# Altium footprint library 101_to_9999_Pin.PcbLib: 6 footprints
Each footprint in its own frame and in the unit in brackets; x right, y up, seen from the top. Pads: shape width x height; smd on the part's side, far side on the other; paste and mask are expansions set on the pad; w line width, h text height; cw(c..) or ccw(c..) is an arc to the next point about the centre after c.
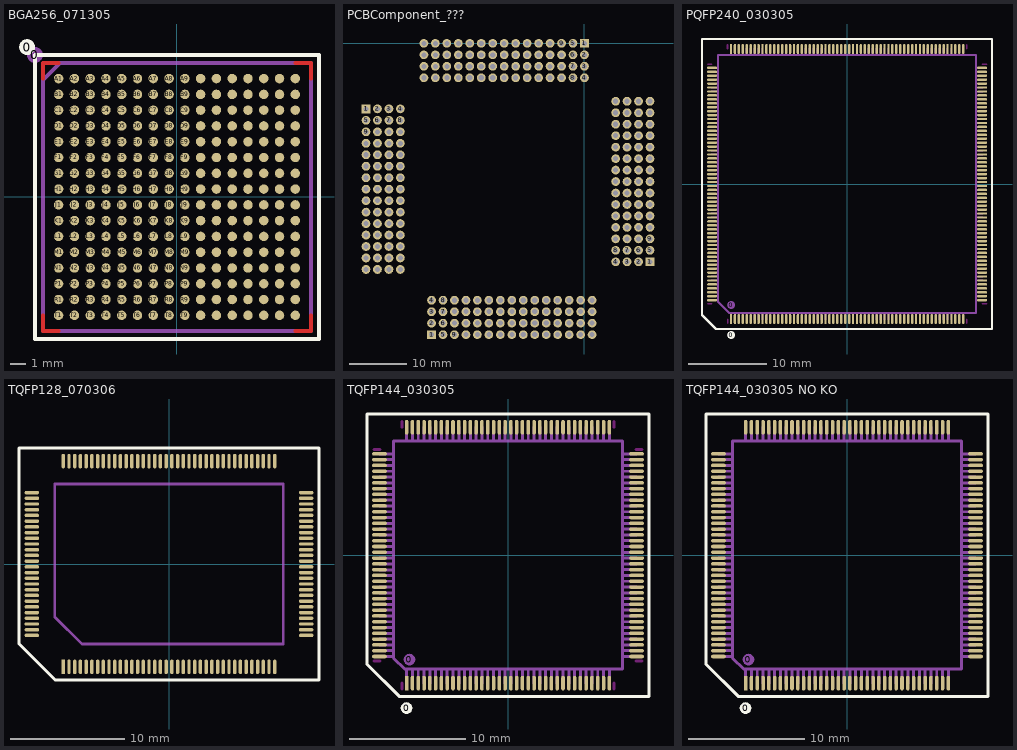
[diagram p0: the footprints below, top view; thin cyan lines are the x and y axes]

## BGA256_071305 [mm] "SMT FP"
height 3.5
pads (258):
  round 1.016 on Top Overlay mask+0.038: 0(-9.5,9.5)
  round 1.016 on Mech1 mask+0.038: 0(-9,9)
  round 0.6 smd mask+0.038: A1(-7.5,7.5) A2(-6.5,7.5) A3(-5.5,7.5) A4(-4.5,7.5) A5(-3.5,7.5) A6(-2.5,7.5) A7(-1.5,7.5) A8(-0.5,7.5) A9(0.5,7.5) A10(1.5,7.5) A11(2.5,7.5) A12(3.5,7.5) A13(4.5,7.5) A14(5.5,7.5) A15(6.5,7.5) A16(7.5,7.5) B1(-7.5,6.5) B2(-6.5,6.5) B3(-5.5,6.5) B4(-4.5,6.5) B5(-3.5,6.5) B6(-2.5,6.5) B7(-1.5,6.5) B8(-0.5,6.5) B9(0.5,6.5) B10(1.5,6.5) B11(2.5,6.5) B12(3.5,6.5) B13(4.5,6.5) B14(5.5,6.5) B15(6.5,6.5) B16(7.5,6.5) C1(-7.5,5.5) C2(-6.5,5.5) C3(-5.5,5.5) C4(-4.5,5.5) C5(-3.5,5.5) C6(-2.5,5.5) C7(-1.5,5.5) C8(-0.5,5.5) C9(0.5,5.5) C10(1.5,5.5) C11(2.5,5.5) C12(3.5,5.5) C13(4.5,5.5) C14(5.5,5.5) C15(6.5,5.5) C16(7.5,5.5) D1(-7.5,4.5) D2(-6.5,4.5) D3(-5.5,4.5) D4(-4.5,4.5) D5(-3.5,4.5) D6(-2.5,4.5) D7(-1.5,4.5) D8(-0.5,4.5) D9(0.5,4.5) D10(1.5,4.5) D11(2.5,4.5) D12(3.5,4.5) D13(4.5,4.5) D14(5.5,4.5) D15(6.5,4.5) D16(7.5,4.5) E1(-7.5,3.5) E2(-6.5,3.5) E3(-5.5,3.5) E4(-4.5,3.5) E5(-3.5,3.5) E6(-2.5,3.5) E7(-1.5,3.5) E8(-0.5,3.5) E9(0.5,3.5) E10(1.5,3.5) E11(2.5,3.5) E12(3.5,3.5) E13(4.5,3.5) E14(5.5,3.5) E15(6.5,3.5) E16(7.5,3.5) F1(-7.5,2.5) F2(-6.5,2.5) F3(-5.5,2.5) F4(-4.5,2.5) F5(-3.5,2.5) F6(-2.5,2.5) F7(-1.5,2.5) F8(-0.5,2.5) F9(0.5,2.5) F10(1.5,2.5) F11(2.5,2.5) F12(3.5,2.5) F13(4.5,2.5) F14(5.5,2.5) F15(6.5,2.5) F16(7.5,2.5) G1(-7.5,1.5) G2(-6.5,1.5) G3(-5.5,1.5) G4(-4.5,1.5) G5(-3.5,1.5) G6(-2.5,1.5) G7(-1.5,1.5) G8(-0.5,1.5) G9(0.5,1.5) G10(1.5,1.5) G11(2.5,1.5) G12(3.5,1.5) G13(4.5,1.5) G14(5.5,1.5) G15(6.5,1.5) G16(7.5,1.5) H1(-7.5,0.5) H2(-6.5,0.5) H3(-5.5,0.5) H4(-4.5,0.5) H5(-3.5,0.5) H6(-2.5,0.5) H7(-1.5,0.5) H8(-0.5,0.5) H9(0.5,0.5) H10(1.5,0.5) H11(2.5,0.5) H12(3.5,0.5) H13(4.5,0.5) H14(5.5,0.5) H15(6.5,0.5) H16(7.5,0.5) J1(-7.5,-0.5) J2(-6.5,-0.5) J3(-5.5,-0.5) J4(-4.5,-0.5) J5(-3.5,-0.5) J6(-2.5,-0.5) J7(-1.5,-0.5) J8(-0.5,-0.5) J9(0.5,-0.5) J10(1.5,-0.5) J11(2.5,-0.5) J12(3.5,-0.5) J13(4.5,-0.5) J14(5.5,-0.5) J15(6.5,-0.5) J16(7.5,-0.5) K1(-7.5,-1.5) K2(-6.5,-1.5) K3(-5.5,-1.5) K4(-4.5,-1.5) K5(-3.5,-1.5) K6(-2.5,-1.5) K7(-1.5,-1.5) K8(-0.5,-1.5) K9(0.5,-1.5) K10(1.5,-1.5) K11(2.5,-1.5) K12(3.5,-1.5) K13(4.5,-1.5) K14(5.5,-1.5) K15(6.5,-1.5) K16(7.5,-1.5) L1(-7.5,-2.5) L2(-6.5,-2.5) L3(-5.5,-2.5) L4(-4.5,-2.5) L5(-3.5,-2.5) L6(-2.5,-2.5) L7(-1.5,-2.5) L8(-0.5,-2.5) L9(0.5,-2.5) L10(1.5,-2.5) L11(2.5,-2.5) L12(3.5,-2.5) L13(4.5,-2.5) L14(5.5,-2.5) L15(6.5,-2.5) L16(7.5,-2.5) M1(-7.5,-3.5) M2(-6.5,-3.5) M3(-5.5,-3.5) M4(-4.5,-3.5) M5(-3.5,-3.5) M6(-2.5,-3.5) M7(-1.5,-3.5) M8(-0.5,-3.5) M9(0.5,-3.5) M10(1.5,-3.5) M11(2.5,-3.5) M12(3.5,-3.5) M13(4.5,-3.5) M14(5.5,-3.5) M15(6.5,-3.5) M16(7.5,-3.5) N1(-7.5,-4.5) N2(-6.5,-4.5) N3(-5.5,-4.5) N4(-4.5,-4.5) N5(-3.5,-4.5) N6(-2.5,-4.5) N7(-1.5,-4.5) N8(-0.5,-4.5) N9(0.5,-4.5) N10(1.5,-4.5) N11(2.5,-4.5) N12(3.5,-4.5) N13(4.5,-4.5) N14(5.5,-4.5) N15(6.5,-4.5) N16(7.5,-4.5) P1(-7.5,-5.5) P2(-6.5,-5.5) P3(-5.5,-5.5) P4(-4.5,-5.5) P5(-3.5,-5.5) P6(-2.5,-5.5) P7(-1.5,-5.5) P8(-0.5,-5.5) P9(0.5,-5.5) P10(1.5,-5.5) P11(2.5,-5.5) P12(3.5,-5.5) P13(4.5,-5.5) P14(5.5,-5.5) P15(6.5,-5.5) P16(7.5,-5.5) R1(-7.5,-6.5) R2(-6.5,-6.5) R3(-5.5,-6.5) R4(-4.5,-6.5) R5(-3.5,-6.5) R6(-2.5,-6.5) R7(-1.5,-6.5) R8(-0.5,-6.5) R9(0.5,-6.5) R10(1.5,-6.5) R11(2.5,-6.5) R12(3.5,-6.5) R13(4.5,-6.5) R14(5.5,-6.5) R15(6.5,-6.5) R16(7.5,-6.5) T1(-7.5,-7.5) T2(-6.5,-7.5) T3(-5.5,-7.5) T4(-4.5,-7.5) T5(-3.5,-7.5) T6(-2.5,-7.5) T7(-1.5,-7.5) T8(-0.5,-7.5) T9(0.5,-7.5) T10(1.5,-7.5) T11(2.5,-7.5) T12(3.5,-7.5) T13(4.5,-7.5) T14(5.5,-7.5) T15(6.5,-7.5) T16(7.5,-7.5)
Top Layer:
  lines w0.254: -8.5,-7.5 -8.5,-8.5 -7.5,-8.5 ; -8.5,7.5 -8.5,8.5 -7.5,8.5 ; 7.5,-8.5 8.5,-8.5 8.5,-7.5 ; 7.5,8.5 8.5,8.5 8.5,7.5
Top Overlay:
  lines w0.254: -9,-9 -9,9 9,9 9,0 9,-9 -9,-9
Top Solder:
  lines w0.254: -8.5,-7.5 -8.5,-8.5 -7.5,-8.5 ; -8.5,7.5 -8.5,8.5 -7.5,8.5 ; 7.5,-8.5 8.5,-8.5 8.5,-7.5 ; 7.5,8.5 8.5,8.5 8.5,7.5
Assembly Outline:
  lines w0.254: -8.5,-8.5 8.5,-8.5 8.5,0 8.5,8.5 -7.4,8.5 -8.5,7.4 -8.5,-8.5
Assembly Designator:
  text ".Designator" at -0.8,-0.3 h1.02
Assembly Comment:
  text ".Comment" at -3.9,-1.7 h1.02

## PCBComponent_??? [mil]
pads (240):
  rect 60x60 hole 35: 1(-1500,-450) 1(-1050,-2000) 1(0,0) 1(450,-1500)
  round 60 hole 35: 2(-1421.26,-450) 2(-1050,-1921.26) 2(0,-78.74) 2(371.26,-1500) 3(-1342.52,-450) 3(-1050,-1842.52) 3(0,-157.48) 3(292.52,-1500) 4(-1263.78,-450) 4(-1050,-1763.78) 4(0,-236.22) 4(213.78,-1500) 5(-1500,-528.74) 5(-971.26,-2000) 5(-78.74,0) 5(450,-1421.26) 6(-1421.26,-528.74) 6(-971.26,-1921.26) 6(-78.74,-78.74) 6(371.26,-1421.26) 7(-1342.52,-528.74) 7(-971.26,-1842.52) 7(-78.74,-157.48) 7(292.52,-1421.26) 8(-1263.78,-528.74) 8(-971.26,-1763.78) 8(-78.74,-236.22) 8(213.78,-1421.26) 9(-1500,-607.48) 9(-892.52,-2000) 9(-157.48,0) 9(450,-1342.52) 10(-1421.26,-607.48) 10(-892.52,-1921.26) 10(-157.48,-78.74) 10(371.26,-1342.52) 11(-1342.52,-607.48) 11(-892.52,-1842.52) 11(-157.48,-157.48) 11(292.52,-1342.52) 12(-1263.78,-607.48) 12(-892.52,-1763.78) 12(-157.48,-236.22) 12(213.78,-1342.52) 13(-1500,-686.22) 13(-813.78,-2000) 13(-236.22,0) 13(450,-1263.78) 14(-1421.26,-686.22) 14(-813.78,-1921.26) 14(-236.22,-78.74) 14(371.26,-1263.78) 15(-1342.52,-686.22) 15(-813.78,-1842.52) 15(-236.22,-157.48) 15(292.52,-1263.78) 16(-1263.78,-686.22) 16(-813.78,-1763.78) 16(-236.22,-236.22) 16(213.78,-1263.78) 17(-1500,-764.96) 17(-735.04,-2000) 17(-314.96,0) 17(450,-1185.04) 18(-1421.26,-764.96) 18(-735.04,-1921.26) 18(-314.96,-78.74) 18(371.26,-1185.04) 19(-1342.52,-764.96) 19(-735.04,-1842.52) 19(-314.96,-157.48) 19(292.52,-1185.04) 20(-1263.78,-764.96) 20(-735.04,-1763.78) 20(-314.96,-236.22) 20(213.78,-1185.04) 21(-1500,-843.7) 21(-656.3,-2000) 21(-393.7,0) 21(450,-1106.3) 22(-1421.26,-843.7) 22(-656.3,-1921.26) 22(-393.7,-78.74) 22(371.26,-1106.3) 23(-1342.52,-843.7) 23(-656.3,-1842.52) 23(-393.7,-157.48) 23(292.52,-1106.3) 24(-1263.78,-843.7) 24(-656.3,-1763.78) 24(-393.7,-236.22) 24(213.78,-1106.3) 25(-1500,-922.44) 25(-577.56,-2000) 25(-472.44,0) 25(450,-1027.56) 26(-1421.26,-922.44) 26(-577.56,-1921.26) 26(-472.44,-78.74) 26(371.26,-1027.56) 27(-1342.52,-922.44) 27(-577.56,-1842.52) 27(-472.44,-157.48) 27(292.52,-1027.56) 28(-1263.78,-922.44) 28(-577.56,-1763.78) 28(-472.44,-236.22) 28(213.78,-1027.56) 29(-1500,-1001.18) 29(-551.18,0) 29(-498.82,-2000) 29(450,-948.82) 30(-1421.26,-1001.18) 30(-551.18,-78.74) 30(-498.82,-1921.26) 30(371.26,-948.82) 31(-1342.52,-1001.18) 31(-551.18,-157.48) 31(-498.82,-1842.52) 31(292.52,-948.82) 32(-1263.78,-1001.18) 32(-551.18,-236.22) 32(-498.82,-1763.78) 32(213.78,-948.82) 33(-1500,-1079.92) 33(-629.92,0) 33(-420.08,-2000) 33(450,-870.08) 34(-1421.26,-1079.92) 34(-629.92,-78.74) 34(-420.08,-1921.26) 34(371.26,-870.08) 35(-1342.52,-1079.92) 35(-629.92,-157.48) 35(-420.08,-1842.52) 35(292.52,-870.08) 36(-1263.78,-1079.92) 36(-629.92,-236.22) 36(-420.08,-1763.78) 36(213.78,-870.08) 37(-1500,-1158.66) 37(-708.66,0) 37(-341.34,-2000) 37(450,-791.34) 38(-1421.26,-1158.66) 38(-708.66,-78.74) 38(-341.34,-1921.26) 38(371.26,-791.34) 39(-1342.52,-1158.66) 39(-708.66,-157.48) 39(-341.34,-1842.52) 39(292.52,-791.34) 40(-1263.78,-1158.66) 40(-708.66,-236.22) 40(-341.34,-1763.78) 40(213.78,-791.34) 41(-1500,-1237.4) 41(-787.4,0) 41(-262.6,-2000) 41(450,-712.6) 42(-1421.26,-1237.4) 42(-787.4,-78.74) 42(-262.6,-1921.26) 42(371.26,-712.6) 43(-1342.52,-1237.4) 43(-787.4,-157.48) 43(-262.6,-1842.52) 43(292.52,-712.6) 44(-1263.78,-1237.4) 44(-787.4,-236.22) 44(-262.6,-1763.78) 44(213.78,-712.6) 45(-1500,-1316.14) 45(-866.14,0) 45(-183.86,-2000) 45(450,-633.86) 46(-1421.26,-1316.14) 46(-866.14,-78.74) 46(-183.86,-1921.26) 46(371.26,-633.86) 47(-1342.52,-1316.14) 47(-866.14,-157.48) 47(-183.86,-1842.52) 47(292.52,-633.86) 48(-1263.78,-1316.14) 48(-866.14,-236.22) 48(-183.86,-1763.78) 48(213.78,-633.86) 49(-1500,-1394.88) 49(-944.88,0) 49(-105.12,-2000) 49(450,-555.12) 50(-1421.26,-1394.88) 50(-944.88,-78.74) 50(-105.12,-1921.26) 50(371.26,-555.12) 51(-1342.52,-1394.88) 51(-944.88,-157.48) 51(-105.12,-1842.52) 51(292.52,-555.12) 52(-1263.78,-1394.88) 52(-944.88,-236.22) 52(-105.12,-1763.78) 52(213.78,-555.12) 53(-1500,-1473.62) 53(-1023.62,0) 53(-26.38,-2000) 53(450,-476.38) 54(-1421.26,-1473.62) 54(-1023.62,-78.74) 54(-26.38,-1921.26) 54(371.26,-476.38) 55(-1342.52,-1473.62) 55(-1023.62,-157.48) 55(-26.38,-1842.52) 55(292.52,-476.38) 56(-1263.78,-1473.62) 56(-1023.62,-236.22) 56(-26.38,-1763.78) 56(213.78,-476.38) 57(-1500,-1552.36) 57(-1102.36,0) 57(52.36,-2000) 57(450,-397.64) 58(-1421.26,-1552.36) 58(-1102.36,-78.74) 58(52.36,-1921.26) 58(371.26,-397.64) 59(-1342.52,-1552.36) 59(-1102.36,-157.48) 59(52.36,-1842.52) 59(292.52,-397.64) 60(-1263.78,-1552.36) 60(-1102.36,-236.22) 60(52.36,-1763.78) 60(213.78,-397.64)
Assembly Designator:
  text ".Designator" at -688.98,-1035.43 h40
Assembly Comment:
  text ".Comment" at -649.61,-1094.49 h40

## PQFP240_030305 [mil] "SMT FP"
height 60
pads (242):
  round 40 on Top Overlay mask+1.5: 0(-580,-755)
  round 40 on Mech1 mask+1.5: 0(-580,-605)
  rect 12x50 smd mask+1.5: 1(-580.71,-675)
  oval 12x50 smd mask+1.5: 2(-561.02,-675) 3(-541.34,-675) 4(-521.65,-675) 5(-501.97,-675) 6(-482.28,-675) 7(-462.6,-675) 8(-442.91,-675) 9(-423.23,-675) 10(-403.54,-675) 11(-383.86,-675) 12(-364.17,-675) 13(-344.49,-675) 14(-324.8,-675) 15(-305.12,-675) 16(-285.43,-675) 17(-265.75,-675) 18(-246.06,-675) 19(-226.38,-675) 20(-206.69,-675) 21(-187.01,-675) 22(-167.32,-675) 23(-147.64,-675) 24(-127.95,-675) 25(-108.27,-675) 26(-88.58,-675) 27(-68.9,-675) 28(-49.21,-675) 29(-29.53,-675) 30(-9.84,-675) 31(9.84,-675) 32(29.53,-675) 33(49.21,-675) 34(68.9,-675) 35(88.58,-675) 36(108.27,-675) 37(127.95,-675) 38(147.64,-675) 39(167.32,-675) 40(187.01,-675) 41(206.69,-675) 42(226.38,-675) 43(246.06,-675) 44(265.75,-675) 45(285.43,-675) 46(305.12,-675) 47(324.8,-675) 48(344.49,-675) 49(364.17,-675) 50(383.86,-675) 51(403.54,-675) 52(423.23,-675) 53(442.91,-675) 54(462.6,-675) 55(482.28,-675) 56(501.97,-675) 57(521.65,-675) 58(541.34,-675) 59(561.02,-675) 60(580.71,-675) 121(580.71,675) 122(561.02,675) 123(541.34,675) 124(521.65,675) 125(501.97,675) 126(482.28,675) 127(462.6,675) 128(442.91,675) 129(423.23,675) 130(403.54,675) 131(383.86,675) 132(364.17,675) 133(344.49,675) 134(324.8,675) 135(305.12,675) 136(285.43,675) 137(265.75,675) 138(246.06,675) 139(226.38,675) 140(206.69,675) 141(187.01,675) 142(167.32,675) 143(147.64,675) 144(127.95,675) 145(108.27,675) 146(88.58,675) 147(68.9,675) 148(49.21,675) 149(29.53,675) 150(9.84,675) 151(-9.84,675) 152(-29.53,675) 153(-49.21,675) 154(-68.9,675) 155(-88.58,675) 156(-108.27,675) 157(-127.95,675) 158(-147.64,675) 159(-167.32,675) 160(-187.01,675) 161(-206.69,675) 162(-226.38,675) 163(-246.06,675) 164(-265.75,675) 165(-285.43,675) 166(-305.12,675) 167(-324.8,675) 168(-344.49,675) 169(-364.17,675) 170(-383.86,675) 171(-403.54,675) 172(-423.23,675) 173(-442.91,675) 174(-462.6,675) 175(-482.28,675) 176(-501.97,675) 177(-521.65,675) 178(-541.34,675) 179(-561.02,675) 180(-580.71,675)
  oval 50x12 smd mask+1.5: 61(675,-580.71) 62(675,-561.02) 63(675,-541.34) 64(675,-521.65) 65(675,-501.97) 66(675,-482.28) 67(675,-462.6) 68(675,-442.91) 69(675,-423.23) 70(675,-403.54) 71(675,-383.86) 72(675,-364.17) 73(675,-344.49) 74(675,-324.8) 75(675,-305.12) 76(675,-285.43) 77(675,-265.75) 78(675,-246.06) 79(675,-226.38) 80(675,-206.69) 81(675,-187.01) 82(675,-167.32) 83(675,-147.64) 84(675,-127.95) 85(675,-108.27) 86(675,-88.58) 87(675,-68.9) 88(675,-49.21) 89(675,-29.53) 90(675,-9.84) 91(675,9.84) 92(675,29.53) 93(675,49.21) 94(675,68.9) 95(675,88.58) 96(675,108.27) 97(675,127.95) 98(675,147.64) 99(675,167.32) 100(675,187.01) 101(675,206.69) 102(675,226.38) 103(675,246.06) 104(675,265.75) 105(675,285.43) 106(675,305.12) 107(675,324.8) 108(675,344.49) 109(675,364.17) 110(675,383.86) 111(675,403.54) 112(675,423.23) 113(675,442.91) 114(675,462.6) 115(675,482.28) 116(675,501.97) 117(675,521.65) 118(675,541.34) 119(675,561.02) 120(675,580.71) 181(-675,580.71) 182(-675,561.02) 183(-675,541.34) 184(-675,521.65) 185(-675,501.97) 186(-675,482.28) 187(-675,462.6) 188(-675,442.91) 189(-675,423.23) 190(-675,403.54) 191(-675,383.86) 192(-675,364.17) 193(-675,344.49) 194(-675,324.8) 195(-675,305.12) 196(-675,285.43) 197(-675,265.75) 198(-675,246.06) 199(-675,226.38) 200(-675,206.69) 201(-675,187.01) 202(-675,167.32) 203(-675,147.64) 204(-675,127.95) 205(-675,108.27) 206(-675,88.58) 207(-675,68.9) 208(-675,49.21) 209(-675,29.53) 210(-675,9.84) 211(-675,-9.84) 212(-675,-29.53) 213(-675,-49.21) 214(-675,-68.9) 215(-675,-88.58) 216(-675,-108.27) 217(-675,-127.95) 218(-675,-147.64) 219(-675,-167.32) 220(-675,-187.01) 221(-675,-206.69) 222(-675,-226.38) 223(-675,-246.06) 224(-675,-265.75) 225(-675,-285.43) 226(-675,-305.12) 227(-675,-324.8) 228(-675,-344.49) 229(-675,-364.17) 230(-675,-383.86) 231(-675,-403.54) 232(-675,-423.23) 233(-675,-442.91) 234(-675,-462.6) 235(-675,-482.28) 236(-675,-501.97) 237(-675,-521.65) 238(-675,-541.34) 239(-675,-561.02) 240(-675,-580.71)
Top Layer keep-out:
  lines w8: -697,-598 -676,-598 ; -697,598 -676,598 ; -598,676 -598,697 ; -597,-697 -597,-676 ; 598,-697 598,-676 ; 598,676 598,697 ; 676,-598 697,-598 ; 676,598 697,598
Top Overlay:
  lines w10: -725.71,-655 -725.71,725 724.29,725 724.29,-725 -655.71,-725 -725.71,-655
Assembly Outline:
  drawing of 253 lines, arcs and shapes, not listed
Assembly Designator:
  text ".Designator" at -75,-30 h40
Assembly Comment:
  text ".Comment" at -480,-530 h40

## TQFP128_070306 [mm] "SMT FP"
height 1.2
pads (128):
  rect 0.305x1.27 smd mask+0.038: 1(-9.25,-9)
  oval 0.305x1.27 smd mask+0.038: 2(-8.75,-9) 3(-8.25,-9) 4(-7.75,-9) 5(-7.25,-9) 6(-6.75,-9) 7(-6.25,-9) 8(-5.75,-9) 9(-5.25,-9) 10(-4.75,-9) 11(-4.25,-9) 12(-3.75,-9) 13(-3.25,-9) 14(-2.75,-9) 15(-2.25,-9) 16(-1.75,-9) 17(-1.25,-9) 18(-0.75,-9) 19(-0.25,-9) 20(0.25,-9) 21(0.75,-9) 22(1.25,-9) 23(1.75,-9) 24(2.25,-9) 25(2.75,-9) 26(3.25,-9) 27(3.75,-9) 28(4.25,-9) 29(4.75,-9) 30(5.25,-9) 31(5.75,-9) 32(6.25,-9) 33(6.75,-9) 34(7.25,-9) 35(7.75,-9) 36(8.25,-9) 37(8.75,-9) 38(9.25,-9) 65(9.25,9) 66(8.75,9) 67(8.25,9) 68(7.75,9) 69(7.25,9) 70(6.75,9) 71(6.25,9) 72(5.75,9) 73(5.25,9) 74(4.75,9) 75(4.25,9) 76(3.75,9) 77(3.25,9) 78(2.75,9) 79(2.25,9) 80(1.75,9) 81(1.25,9) 82(0.75,9) 83(0.25,9) 84(-0.25,9) 85(-0.75,9) 86(-1.25,9) 87(-1.75,9) 88(-2.25,9) 89(-2.75,9) 90(-3.25,9) 91(-3.75,9) 92(-4.25,9) 93(-4.75,9) 94(-5.25,9) 95(-5.75,9) 96(-6.25,9) 97(-6.75,9) 98(-7.25,9) 99(-7.75,9) 100(-8.25,9) 101(-8.75,9) 102(-9.25,9)
  oval 1.27x0.305 smd mask+0.038: 39(12,-6.25) 40(12,-5.75) 41(12,-5.25) 42(12,-4.75) 43(12,-4.25) 44(12,-3.75) 45(12,-3.25) 46(12,-2.75) 47(12,-2.25) 48(12,-1.75) 49(12,-1.25) 50(12,-0.75) 51(12,-0.25) 52(12,0.25) 53(12,0.75) 54(12,1.25) 55(12,1.75) 56(12,2.25) 57(12,2.75) 58(12,3.25) 59(12,3.75) 60(12,4.25) 61(12,4.75) 62(12,5.25) 63(12,5.75) 64(12,6.25) 103(-12,6.25) 104(-12,5.75) 105(-12,5.25) 106(-12,4.75) 107(-12,4.25) 108(-12,3.75) 109(-12,3.25) 110(-12,2.75) 111(-12,2.25) 112(-12,1.75) 113(-12,1.25) 114(-12,0.75) 115(-12,0.25) 116(-12,-0.25) 117(-12,-0.75) 118(-12,-1.25) 119(-12,-1.75) 120(-12,-2.25) 121(-12,-2.75) 122(-12,-3.25) 123(-12,-3.75) 124(-12,-4.25) 125(-12,-4.75) 126(-12,-5.25) 127(-12,-5.75) 128(-12,-6.25)
Top Overlay:
  lines w0.254: -13.125,-2.9 -13.125,-6.975 ; -13.125,-6.975 -13.125,0 -13.125,10.15 6.325,10.15 13.125,10.15 13.125,0 13.125,-10.15 -6.325,-10.15 -9.95,-10.15 -13.125,-6.975
Assembly Outline:
  lines w0.254: -10,-2.75 -10,-4.625 ; -10,-4.625 -10,0 -10,7 0,7 10,7 10,0 10,-7 0,-7 -7.625,-7 -10,-4.625
Assembly Designator:
  text ".Designator" at -0.925,-0.45 h1.02
Assembly Comment:
  text ".Comment" at -6.8,-2.175 h1.02

## TQFP144_030305 [mm] "SMT FP"
height 1.524
pads (146):
  round 1.016 on Top Overlay mask+0.038: 0(-8.763,-13.208)
  round 1.016 on Mech1 mask+0.038: 0(-8.509,-9.017)
  rect 0.305x1.27 smd mask+0.038: 1(-8.75,-11.05)
  oval 0.305x1.27 smd mask+0.038: 2(-8.25,-11.05) 3(-7.75,-11.05) 4(-7.25,-11.05) 5(-6.75,-11.05) 6(-6.25,-11.05) 7(-5.75,-11.05) 8(-5.25,-11.05) 9(-4.75,-11.05) 10(-4.25,-11.05) 11(-3.75,-11.05) 12(-3.25,-11.05) 13(-2.75,-11.05) 14(-2.25,-11.05) 15(-1.75,-11.05) 16(-1.25,-11.05) 17(-0.75,-11.05) 18(-0.25,-11.05) 19(0.25,-11.05) 20(0.75,-11.05) 21(1.25,-11.05) 22(1.75,-11.05) 23(2.25,-11.05) 24(2.75,-11.05) 25(3.25,-11.05) 26(3.75,-11.05) 27(4.25,-11.05) 28(4.75,-11.05) 29(5.25,-11.05) 30(5.75,-11.05) 31(6.25,-11.05) 32(6.75,-11.05) 33(7.25,-11.05) 34(7.75,-11.05) 35(8.25,-11.05) 36(8.75,-11.05) 73(8.75,11.05) 74(8.25,11.05) 75(7.75,11.05) 76(7.25,11.05) 77(6.75,11.05) 78(6.25,11.05) 79(5.75,11.05) 80(5.25,11.05) 81(4.75,11.05) 82(4.25,11.05) 83(3.75,11.05) 84(3.25,11.05) 85(2.75,11.05) 86(2.25,11.05) 87(1.75,11.05) 88(1.25,11.05) 89(0.75,11.05) 90(0.25,11.05) 91(-0.25,11.05) 92(-0.75,11.05) 93(-1.25,11.05) 94(-1.75,11.05) 95(-2.25,11.05) 96(-2.75,11.05) 97(-3.25,11.05) 98(-3.75,11.05) 99(-4.25,11.05) 100(-4.75,11.05) 101(-5.25,11.05) 102(-5.75,11.05) 103(-6.25,11.05) 104(-6.75,11.05) 105(-7.25,11.05) 106(-7.75,11.05) 107(-8.25,11.05) 108(-8.75,11.05)
  oval 1.27x0.305 smd mask+0.038: 37(11.1,-8.75) 38(11.1,-8.25) 39(11.1,-7.75) 40(11.1,-7.25) 41(11.1,-6.75) 42(11.1,-6.25) 43(11.1,-5.75) 44(11.1,-5.25) 45(11.1,-4.75) 46(11.1,-4.25) 47(11.1,-3.75) 48(11.1,-3.25) 49(11.1,-2.75) 50(11.1,-2.25) 51(11.1,-1.75) 52(11.1,-1.25) 53(11.1,-0.75) 54(11.1,-0.25) 55(11.1,0.25) 56(11.1,0.75) 57(11.1,1.25) 58(11.1,1.75) 59(11.1,2.25) 60(11.1,2.75) 61(11.1,3.25) 62(11.1,3.75) 63(11.1,4.25) 64(11.1,4.75) 65(11.1,5.25) 66(11.1,5.75) 67(11.1,6.25) 68(11.1,6.75) 69(11.1,7.25) 70(11.1,7.75) 71(11.1,8.25) 72(11.1,8.75) 109(-11.1,8.75) 110(-11.1,8.25) 111(-11.1,7.75) 112(-11.1,7.25) 113(-11.1,6.75) 114(-11.1,6.25) 115(-11.1,5.75) 116(-11.1,5.25) 117(-11.1,4.75) 118(-11.1,4.25) 119(-11.1,3.75) 120(-11.1,3.25) 121(-11.1,2.75) 122(-11.1,2.25) 123(-11.1,1.75) 124(-11.1,1.25) 125(-11.1,0.75) 126(-11.1,0.25) 127(-11.1,-0.25) 128(-11.1,-0.75) 129(-11.1,-1.25) 130(-11.1,-1.75) 131(-11.1,-2.25) 132(-11.1,-2.75) 133(-11.1,-3.25) 134(-11.1,-3.75) 135(-11.1,-4.25) 136(-11.1,-4.75) 137(-11.1,-5.25) 138(-11.1,-5.75) 139(-11.1,-6.25) 140(-11.1,-6.75) 141(-11.1,-7.25) 142(-11.1,-7.75) 143(-11.1,-8.25) 144(-11.1,-8.75)
Top Layer keep-out:
  lines w0.254: -11.557,-9.144 -11.049,-9.144 ; -11.557,9.144 -11.049,9.144 ; -9.144,-11.557 -9.144,-11.049 ; -9.144,11.049 -9.144,11.557 ; 9.144,-11.557 9.144,-11.049 ; 9.144,11.049 9.144,11.557 ; 11.049,-9.144 11.557,-9.144 ; 11.049,9.144 11.557,9.144
Top Overlay:
  lines w0.254: -12.192,-9.398 -9.398,-12.192 12.192,-12.192 12.192,12.192 -12.192,12.192 -12.192,-9.017 -12.192,-9.398
Assembly Outline:
  drawing of 151 lines, arcs and shapes, not listed
Assembly Designator:
  text ".Designator" at -1.905,-0.381 h1.02
Assembly Comment:
  text ".Comment" at -8.255,-8.382 h1.02

## TQFP144_030305 NO KO [mm] "SMT FP"
height 1.524
pads (146):
  round 1.016 on Top Overlay mask+0.038: 0(-8.763,-13.208)
  round 1.016 on Mech1 mask+0.038: 0(-8.509,-9.017)
  rect 0.305x1.27 smd mask+0.038: 1(-8.75,-11.05)
  oval 0.305x1.27 smd mask+0.038: 2(-8.25,-11.05) 3(-7.75,-11.05) 4(-7.25,-11.05) 5(-6.75,-11.05) 6(-6.25,-11.05) 7(-5.75,-11.05) 8(-5.25,-11.05) 9(-4.75,-11.05) 10(-4.25,-11.05) 11(-3.75,-11.05) 12(-3.25,-11.05) 13(-2.75,-11.05) 14(-2.25,-11.05) 15(-1.75,-11.05) 16(-1.25,-11.05) 17(-0.75,-11.05) 18(-0.25,-11.05) 19(0.25,-11.05) 20(0.75,-11.05) 21(1.25,-11.05) 22(1.75,-11.05) 23(2.25,-11.05) 24(2.75,-11.05) 25(3.25,-11.05) 26(3.75,-11.05) 27(4.25,-11.05) 28(4.75,-11.05) 29(5.25,-11.05) 30(5.75,-11.05) 31(6.25,-11.05) 32(6.75,-11.05) 33(7.25,-11.05) 34(7.75,-11.05) 35(8.25,-11.05) 36(8.75,-11.05) 73(8.75,11.05) 74(8.25,11.05) 75(7.75,11.05) 76(7.25,11.05) 77(6.75,11.05) 78(6.25,11.05) 79(5.75,11.05) 80(5.25,11.05) 81(4.75,11.05) 82(4.25,11.05) 83(3.75,11.05) 84(3.25,11.05) 85(2.75,11.05) 86(2.25,11.05) 87(1.75,11.05) 88(1.25,11.05) 89(0.75,11.05) 90(0.25,11.05) 91(-0.25,11.05) 92(-0.75,11.05) 93(-1.25,11.05) 94(-1.75,11.05) 95(-2.25,11.05) 96(-2.75,11.05) 97(-3.25,11.05) 98(-3.75,11.05) 99(-4.25,11.05) 100(-4.75,11.05) 101(-5.25,11.05) 102(-5.75,11.05) 103(-6.25,11.05) 104(-6.75,11.05) 105(-7.25,11.05) 106(-7.75,11.05) 107(-8.25,11.05) 108(-8.75,11.05)
  oval 1.27x0.305 smd mask+0.038: 37(11.1,-8.75) 38(11.1,-8.25) 39(11.1,-7.75) 40(11.1,-7.25) 41(11.1,-6.75) 42(11.1,-6.25) 43(11.1,-5.75) 44(11.1,-5.25) 45(11.1,-4.75) 46(11.1,-4.25) 47(11.1,-3.75) 48(11.1,-3.25) 49(11.1,-2.75) 50(11.1,-2.25) 51(11.1,-1.75) 52(11.1,-1.25) 53(11.1,-0.75) 54(11.1,-0.25) 55(11.1,0.25) 56(11.1,0.75) 57(11.1,1.25) 58(11.1,1.75) 59(11.1,2.25) 60(11.1,2.75) 61(11.1,3.25) 62(11.1,3.75) 63(11.1,4.25) 64(11.1,4.75) 65(11.1,5.25) 66(11.1,5.75) 67(11.1,6.25) 68(11.1,6.75) 69(11.1,7.25) 70(11.1,7.75) 71(11.1,8.25) 72(11.1,8.75) 109(-11.1,8.75) 110(-11.1,8.25) 111(-11.1,7.75) 112(-11.1,7.25) 113(-11.1,6.75) 114(-11.1,6.25) 115(-11.1,5.75) 116(-11.1,5.25) 117(-11.1,4.75) 118(-11.1,4.25) 119(-11.1,3.75) 120(-11.1,3.25) 121(-11.1,2.75) 122(-11.1,2.25) 123(-11.1,1.75) 124(-11.1,1.25) 125(-11.1,0.75) 126(-11.1,0.25) 127(-11.1,-0.25) 128(-11.1,-0.75) 129(-11.1,-1.25) 130(-11.1,-1.75) 131(-11.1,-2.25) 132(-11.1,-2.75) 133(-11.1,-3.25) 134(-11.1,-3.75) 135(-11.1,-4.25) 136(-11.1,-4.75) 137(-11.1,-5.25) 138(-11.1,-5.75) 139(-11.1,-6.25) 140(-11.1,-6.75) 141(-11.1,-7.25) 142(-11.1,-7.75) 143(-11.1,-8.25) 144(-11.1,-8.75)
Top Overlay:
  lines w0.254: -12.192,-9.398 -9.398,-12.192 12.192,-12.192 12.192,12.192 -12.192,12.192 -12.192,-9.017 -12.192,-9.398
Assembly Outline:
  drawing of 151 lines, arcs and shapes, not listed
Assembly Designator:
  text ".Designator" at -1.905,-0.381 h1.02
Assembly Comment:
  text ".Comment" at -8.255,-8.382 h1.02